# Altium footprint library HDR_fszhang.PcbLib: 116 footprints (part 3 of 8)
Each footprint in its own frame and in the unit in brackets; x right, y up, seen from the top. Pads: shape width x height; smd on the part's side, far side on the other; paste and mask are expansions set on the pad; w line width, h text height; cw(c..) or ccw(c..) is an arc to the next point about the centre after c.
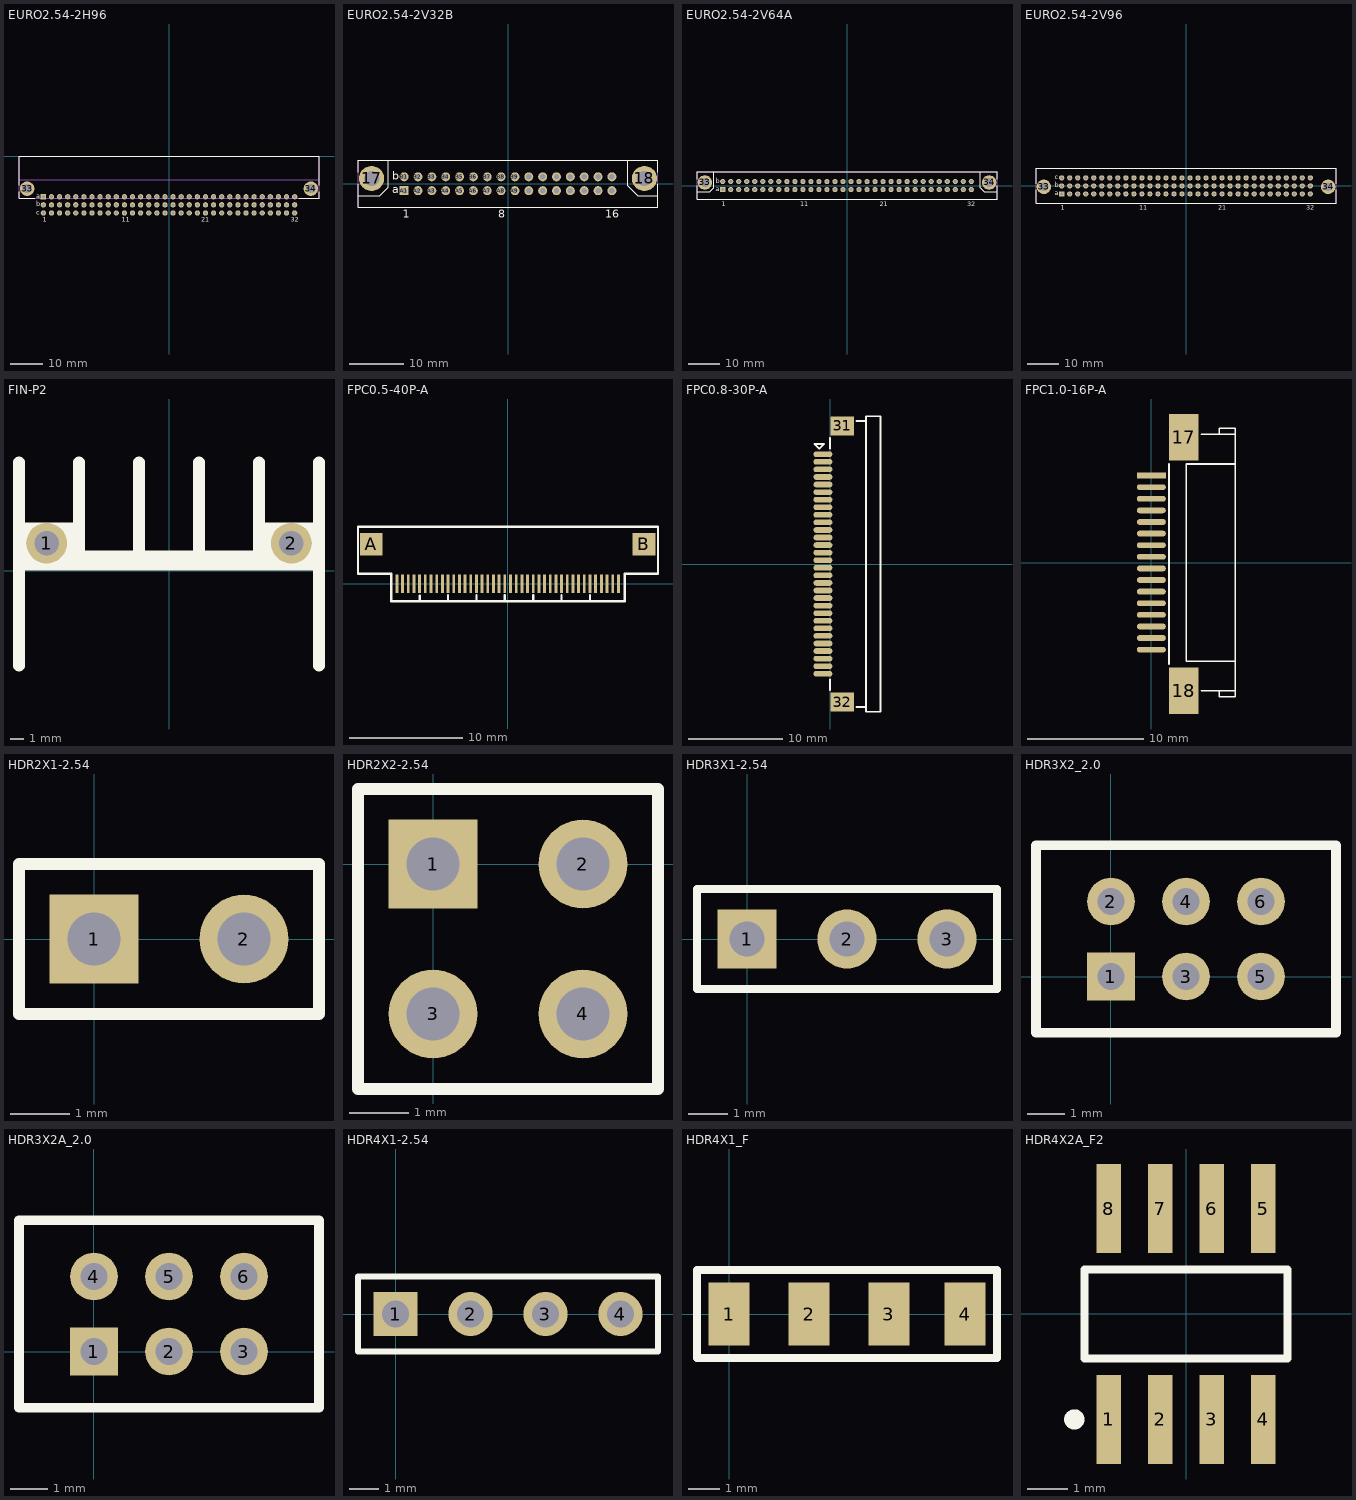
[diagram p2: the footprints below, top view; thin cyan lines are the x and y axes]

## EURO2.54-2H96 [mm] "Connector; DIN 41612, Type C, Thru-Hole; Rows a+b+c, 96 Position; Right Angle"
height 11.1
pads (98):
  round 4.6 hole 2.8: 33(-44.45,-10.1) 34(44.45,-10.1)
  rect 1.65x1.65 hole 1: A1(-39.37,-12.64)
  round 1.65 hole 1: A2(-36.83,-12.64) A3(-34.29,-12.64) A4(-31.75,-12.64) A5(-29.21,-12.64) A6(-26.67,-12.64) A7(-24.13,-12.64) A8(-21.59,-12.64) A9(-19.05,-12.64) A10(-16.51,-12.64) A11(-13.97,-12.64) A12(-11.43,-12.64) A13(-8.89,-12.64) A14(-6.35,-12.64) A15(-3.81,-12.64) A16(-1.27,-12.64) A17(1.27,-12.64) A18(3.81,-12.64) A19(6.35,-12.64) A20(8.89,-12.64) A21(11.43,-12.64) A22(13.97,-12.64) A23(16.51,-12.64) A24(19.05,-12.64) A25(21.59,-12.64) A26(24.13,-12.64) A27(26.67,-12.64) A28(29.21,-12.64) A29(31.75,-12.64) A30(34.29,-12.64) A31(36.83,-12.64) A32(39.37,-12.64) B1(-39.37,-15.18) B2(-36.83,-15.18) B3(-34.29,-15.18) B4(-31.75,-15.18) B5(-29.21,-15.18) B6(-26.67,-15.18) B7(-24.13,-15.18) B8(-21.59,-15.18) B9(-19.05,-15.18) B10(-16.51,-15.18) B11(-13.97,-15.18) B12(-11.43,-15.18) B13(-8.89,-15.18) B14(-6.35,-15.18) B15(-3.81,-15.18) B16(-1.27,-15.18) B17(1.27,-15.18) B18(3.81,-15.18) B19(6.35,-15.18) B20(8.89,-15.18) B21(11.43,-15.18) B22(13.97,-15.18) B23(16.51,-15.18) B24(19.05,-15.18) B25(21.59,-15.18) B26(24.13,-15.18) B27(26.67,-15.18) B28(29.21,-15.18) B29(31.75,-15.18) B30(34.29,-15.18) B31(36.83,-15.18) B32(39.37,-15.18) C1(-39.37,-17.72) C2(-36.83,-17.72) C3(-34.29,-17.72) C4(-31.75,-17.72) C5(-29.21,-17.72) C6(-26.67,-17.72) C7(-24.13,-17.72) C8(-21.59,-17.72) C9(-19.05,-17.72) C10(-16.51,-17.72) C11(-13.97,-17.72) C12(-11.43,-17.72) C13(-8.89,-17.72) C14(-6.35,-17.72) C15(-3.81,-17.72) C16(-1.27,-17.72) C17(1.27,-17.72) C18(3.81,-17.72) C19(6.35,-17.72) C20(8.89,-17.72) C21(11.43,-17.72) C22(13.97,-17.72) C23(16.51,-17.72) C24(19.05,-17.72) C25(21.59,-17.72) C26(24.13,-17.72) C27(26.67,-17.72) C28(29.21,-17.72) C29(31.75,-17.72) C30(34.29,-17.72) C31(36.83,-17.72) C32(39.37,-17.72)
Top Overlay:
  lines w0.2: -47,-11.1 -47,-13.14 -42.07,-13.14 ; -47,-9.1 -47,0 47,0 47,-9.1 ; 40.595,-13.14 47,-13.14 47,-11.1
  text "1" at -39.62,-20.42 h1.5
  text "a" at -41.58,-13.14 h1.5
  text "b" at -41.58,-15.68 h1.5
  text "c" at -41.58,-18.22 h1.5
  text "32" at 38.12,-20.42 h1.5
  text "11" at -14.845,-20.42 h1.5
  text "21" at 10.18,-20.42 h1.5
Mechanical 1:
  lines w0.1: -47,-7.34 47,-7.34
  text "PCB Edge" at -46.47,-6.84 h0.6
Mechanical 13:
  lines w0.1: -47,-13.14 47,-13.14 47,0 -47,0 -47,-13.14
3D body: height 11.1, standoff 0, extent -47,-13.14 47,0

## EURO2.54-2V32B [mm] "Connector; DIN 41612, Type 2B, Thru-Hole; Rows a+b, 32 Position; Vertical"
height 11.6
pads (34):
  round 4.6 hole 2.8: 17(-25,0.97) 18(25,0.97)
  rect 1.65x1.65 hole 1: A1(-19.05,-1.27)
  round 1.65 hole 1: A2(-16.51,-1.27) A3(-13.97,-1.27) A4(-11.43,-1.27) A5(-8.89,-1.27) A6(-6.35,-1.27) A7(-3.81,-1.27) A8(-1.27,-1.27) A9(1.27,-1.27) A10(3.81,-1.27) A11(6.35,-1.27) A12(8.89,-1.27) A13(11.43,-1.27) A14(13.97,-1.27) A15(16.51,-1.27) A16(19.05,-1.27) B1(-19.05,1.27) B2(-16.51,1.27) B3(-13.97,1.27) B4(-11.43,1.27) B5(-8.89,1.27) B6(-6.35,1.27) B7(-3.81,1.27) B8(-1.27,1.27) B9(1.27,1.27) B10(3.81,1.27) B11(6.35,1.27) B12(8.89,1.27) B13(11.43,1.27) B14(13.97,1.27) B15(16.51,1.27) B16(19.05,1.27)
Top Overlay:
  lines w0.2: -27.5,-2.159 -23.495,-2.159 -21.971,-0.635 -21.971,4.3 ; -27.5,-0.13 -27.5,-4.3 27.5,-4.3 27.5,-0.13 ; -27.5,2.07 -27.5,4.3 27.5,4.3 27.5,2.07 ; 21.971,4.3 21.971,-0.381 23.749,-2.159 27.5,-2.159
  text "1" at -19.3,-6.23 h1.5
  text "a" at -21.26,-1.77 h1.5
  text "b" at -21.26,0.77 h1.5
  text "8" at -1.77,-6.23 h1.5
  text "16" at 17.8,-6.23 h1.5
Mechanical 13:
  lines w0.1: -27.5,-4.3 27.5,-4.3 27.5,4.3 -27.5,4.3 -27.5,-4.3
3D body: height 11.6, standoff 0, extent -27.5,-4.3 27.5,4.3

## EURO2.54-2V64A [mm] "Connector; DIN 41612, Type B, Thru-Hole; Rows a+b, 64 Position; Vertical"
height 11.6
pads (66):
  round 4.6 hole 2.8: 33(-45,0.97) 34(45,0.97)
  rect 1.65x1.65 hole 1: A1(-39.37,-1.27)
  round 1.65 hole 1: A2(-36.83,-1.27) A3(-34.29,-1.27) A4(-31.75,-1.27) A5(-29.21,-1.27) A6(-26.67,-1.27) A7(-24.13,-1.27) A8(-21.59,-1.27) A9(-19.05,-1.27) A10(-16.51,-1.27) A11(-13.97,-1.27) A12(-11.43,-1.27) A13(-8.89,-1.27) A14(-6.35,-1.27) A15(-3.81,-1.27) A16(-1.27,-1.27) A17(1.27,-1.27) A18(3.81,-1.27) A19(6.35,-1.27) A20(8.89,-1.27) A21(11.43,-1.27) A22(13.97,-1.27) A23(16.51,-1.27) A24(19.05,-1.27) A25(21.59,-1.27) A26(24.13,-1.27) A27(26.67,-1.27) A28(29.21,-1.27) A29(31.75,-1.27) A30(34.29,-1.27) A31(36.83,-1.27) A32(39.37,-1.27) B1(-39.37,1.27) B2(-36.83,1.27) B3(-34.29,1.27) B4(-31.75,1.27) B5(-29.21,1.27) B6(-26.67,1.27) B7(-24.13,1.27) B8(-21.59,1.27) B9(-19.05,1.27) B10(-16.51,1.27) B11(-13.97,1.27) B12(-11.43,1.27) B13(-8.89,1.27) B14(-6.35,1.27) B15(-3.81,1.27) B16(-1.27,1.27) B17(1.27,1.27) B18(3.81,1.27) B19(6.35,1.27) B20(8.89,1.27) B21(11.43,1.27) B22(13.97,1.27) B23(16.51,1.27) B24(19.05,1.27) B25(21.59,1.27) B26(24.13,1.27) B27(26.67,1.27) B28(29.21,1.27) B29(31.75,1.27) B30(34.29,1.27) B31(36.83,1.27) B32(39.37,1.27)
Top Overlay:
  lines w0.2: -47.5,-0.13 -47.5,-4.3 47.5,-4.3 47.5,-0.13 ; -47.5,2.07 -47.5,4.3 47.5,4.3 47.5,2.07 ; -47.498,-2.032 -43.434,-2.032 -42.164,-0.762 -42.164,4.3 ; 42.164,4.3 42.164,-0.762 43.434,-2.032 47.498,-2.032
  text "21" at 10.43,-6.48 h1.5
  text "11" at -14.82,-6.48 h1.5
  text "32" at 38.12,-6.48 h1.5
  text "b" at -41.58,0.77 h1.5
  text "a" at -41.58,-1.77 h1.5
  text "1" at -39.62,-6.48 h1.5
Mechanical 13:
  lines w0.1: -47.5,-4.3 47.5,-4.3 47.5,4.3 -47.5,4.3 -47.5,-4.3
3D body: height 11.6, standoff 0, extent -47.5,-4.3 47.5,4.3

## EURO2.54-2V96 [mm] "Connector; DIN 41612, Type C, Thru-Hole; Rows a+b+c, 96 Position; Vertical"
height 11.6
pads (98):
  round 4.6 hole 2.8: 33(-45,-0.3) 34(45,-0.3)
  rect 1.65x1.65 hole 1: A1(-39.37,-2.54)
  round 1.65 hole 1: A2(-36.83,-2.54) A3(-34.29,-2.54) A4(-31.75,-2.54) A5(-29.21,-2.54) A6(-26.67,-2.54) A7(-24.13,-2.54) A8(-21.59,-2.54) A9(-19.05,-2.54) A10(-16.51,-2.54) A11(-13.97,-2.54) A12(-11.43,-2.54) A13(-8.89,-2.54) A14(-6.35,-2.54) A15(-3.81,-2.54) A16(-1.27,-2.54) A17(1.27,-2.54) A18(3.81,-2.54) A19(6.35,-2.54) A20(8.89,-2.54) A21(11.43,-2.54) A22(13.97,-2.54) A23(16.51,-2.54) A24(19.05,-2.54) A25(21.59,-2.54) A26(24.13,-2.54) A27(26.67,-2.54) A28(29.21,-2.54) A29(31.75,-2.54) A30(34.29,-2.54) A31(36.83,-2.54) A32(39.37,-2.54) B1(-39.37,0) B2(-36.83,0) B3(-34.29,0) B4(-31.75,0) B5(-29.21,0) B6(-26.67,0) B7(-24.13,0) B8(-21.59,0) B9(-19.05,0) B10(-16.51,0) B11(-13.97,0) B12(-11.43,0) B13(-8.89,0) B14(-6.35,0) B15(-3.81,0) B16(-1.27,0) B17(1.27,0) B18(3.81,0) B19(6.35,0) B20(8.89,0) B21(11.43,0) B22(13.97,0) B23(16.51,0) B24(19.05,0) B25(21.59,0) B26(24.13,0) B27(26.67,0) B28(29.21,0) B29(31.75,0) B30(34.29,0) B31(36.83,0) B32(39.37,0) C1(-39.37,2.54) C2(-36.83,2.54) C3(-34.29,2.54) C4(-31.75,2.54) C5(-29.21,2.54) C6(-26.67,2.54) C7(-24.13,2.54) C8(-21.59,2.54) C9(-19.05,2.54) C10(-16.51,2.54) C11(-13.97,2.54) C12(-11.43,2.54) C13(-8.89,2.54) C14(-6.35,2.54) C15(-3.81,2.54) C16(-1.27,2.54) C17(1.27,2.54) C18(3.81,2.54) C19(6.35,2.54) C20(8.89,2.54) C21(11.43,2.54) C22(13.97,2.54) C23(16.51,2.54) C24(19.05,2.54) C25(21.59,2.54) C26(24.13,2.54) C27(26.67,2.54) C28(29.21,2.54) C29(31.75,2.54) C30(34.29,2.54) C31(36.83,2.54) C32(39.37,2.54)
Top Overlay:
  lines w0.2: -47.5,-1.3 -47.5,-5.55 47.5,-5.55 47.5,-1.3 ; -47.5,0.7 -47.5,5.55 47.5,5.55 47.5,0.7
  text "1" at -39.62,-7.525 h1.5
  text "a" at -41.58,-3.04 h1.5
  text "b" at -41.58,-0.5 h1.5
  text "c" at -41.58,2.04 h1.5
  text "32" at 38.12,-7.525 h1.5
  text "11" at -14.82,-7.525 h1.5
  text "21" at 10.18,-7.525 h1.5
Mechanical 13:
  lines w0.1: -47.5,-5.55 -47.5,5.55 47.5,5.55 47.5,-5.55 -47.5,-5.55
3D body: height 11.6, standoff 0, extent -47.5,-5.55 47.5,5.55

## FIN-P2 [mm] "散热片"
height 1.9
pads (2):
  round 3 hole 1.8: 1(-9.017,2.032) 2(9.017,2.032)
Top Overlay:
  rectangle: 6.629,1.27 11.049,3.556
  rectangle: -11.049,0.889 -6.629,3.556
  lines w0.85: -11.049,-7 -11.049,8 ; -6.629,0.762 -6.629,8.001 ; -2.21,0.762 -2.21,8.001 ; 2.21,0.762 2.21,8.001 ; 6.629,0.762 6.629,8.001 ; 11.049,-7 11.049,8
  lines w1.5: -10.668,0.762 10.668,0.762

## FPC0.5-40P-A [mm] "FPC0.5mm接口"
height 1
pads (42):
  rect 0.25x1.6 smd: 1(-9.78,0.011) 2(-9.28,0.011) 3(-8.78,0.011) 4(-8.28,0.011) 5(-7.78,0.011) 6(-7.28,0.011) 7(-6.78,0.011) 8(-6.28,0.011) 9(-5.78,0.011) 10(-5.28,0.011) 11(-4.78,0.011) 12(-4.28,0.011) 13(-3.78,0.011) 14(-3.28,0.011) 15(-2.78,0.011) 16(-2.28,0.011) 17(-1.78,0.011) 18(-1.28,0.011) 19(-0.78,0.011) 20(-0.28,0.011) 21(0.22,0.011) 22(0.72,0.011) 23(1.22,0.011) 24(1.72,0.011) 25(2.22,0.011) 26(2.72,0.011) 27(3.22,0.011) 28(3.72,0.011) 29(4.22,0.011) 30(4.72,0.011) 31(5.22,0.011) 32(5.72,0.011) 33(6.22,0.011) 34(6.72,0.011) 35(7.22,0.011) 36(7.72,0.011) 37(8.22,0.011) 38(8.72,0.011) 39(9.22,0.011) 40(9.72,0.011)
  rect 2x2 smd: A(-12.029,3.5) B(11.971,3.5)
Top Overlay:
  lines w0.2: -10.287,-1.524 -10.287,0.889 -13.208,0.889 -13.208,5.036 13.208,5.036 13.208,1.27 13.208,0.889 10.287,0.889 10.287,-1.514 -10.287,-1.514 ; -7.78,-1.514 -7.78,-1.014 ; -5.28,-1.514 -5.28,-0.989 ; -2.78,-1.489 -2.78,-0.989 ; -0.28,-1.464 -0.28,-0.964 ; 2.22,-1.464 2.22,-0.964 ; 4.72,-1.464 4.72,-0.964 ; 7.22,-1.464 7.22,-0.964

## FPC0.8-30P-A [mm] "FPC0.8mm接口"
height 1.2
pads (32):
  oval 2x0.6 smd: 1(-0.762,11.6) 2(-0.762,10.8) 3(-0.762,10) 4(-0.762,9.2) 5(-0.762,8.4) 6(-0.762,7.6) 7(-0.762,6.8) 8(-0.762,6) 9(-0.762,5.2) 10(-0.762,4.4) 11(-0.762,3.6) 12(-0.762,2.8) 13(-0.762,2) 14(-0.762,1.2) 15(-0.762,0.4) 16(-0.762,-0.4) 17(-0.762,-1.2) 18(-0.762,-2) 19(-0.762,-2.8) 20(-0.762,-3.6) 21(-0.762,-4.4) 22(-0.762,-5.2) 23(-0.762,-6) 24(-0.762,-6.8) 25(-0.762,-7.6) 26(-0.762,-8.4) 27(-0.762,-9.2) 28(-0.762,-10) 29(-0.762,-10.8) 30(-0.762,-11.6)
  rect 2.5x2 smd: 31(1.27,14.605) 32(1.27,-14.605)
Top Overlay:
  lines w0.2: 0,-13.335 0,-12.192 ; 0,12.192 0,13.335 ; 2.794,-15.113 3.81,-15.113 ; 2.794,15.113 3.81,15.113 ; 3.81,-15.113 3.81,-15.621 5.334,-15.621 5.334,15.621 3.81,15.621 3.81,15.113 ; 3.81,-15.113 3.81,15.113 ; -1.651,12.7 -1.524,12.7 -0.635,12.7 -1.143,12.192 -1.651,12.7

## FPC1.0-16P-A [mm] "FPC1.0mm接口"
height 1.2
pads (18):
  rect 2.5x0.5 smd: 1(0,7.493)
  oval 2.5x0.5 smd: 2(0,6.493) 3(0,5.493) 4(0,4.493) 5(0,3.493) 6(0,2.493) 7(0,1.493) 8(0,0.493) 9(0,-0.507) 10(0,-1.507) 11(0,-2.507) 12(0,-3.507) 13(0,-4.507) 14(0,-5.507) 15(0,-6.507) 16(0,-7.507)
  rect 2.5x4 smd: 17(2.794,10.795) 18(2.794,-11.049)
Top Overlay:
  lines w0.15: 1.524,-8.763 1.524,8.509 ; 4.318,-11.049 7.224,-11.049 ; 4.318,11.049 7.224,11.049 ; 5.842,11.049 5.842,11.557 7.224,11.557 7.224,11.049 ; 6.096,-11.049 5.842,-11.049 5.842,-11.557 7.224,-11.557 7.224,-11.049 ; 7.224,-8.507 3,-8.507 3,8.493 7.224,8.493 ; 7.224,-11.049 7.224,11.049

## HDR2X1-2.54 [mm] "2.54单排针排座"
height 7.01
pads (2):
  rect 1.5x1.5 hole 0.9: 1(0,0)
  round 1.5 hole 0.9: 2(2.54,0)
Top Overlay:
  lines w0.2: -1.27,-1.27 -1.27,1.27 3.81,1.27 3.81,-1.27 -1.27,-1.27
3D body: height 8.54, standoff -3, extent -1.27,-1.27 3.81,1.27

## HDR2X2-2.54 [mm] "2.54双排针排座"
height 7.01
pads (4):
  rect 1.5x1.5 hole 0.9: 1(0,0)
  round 1.5 hole 0.9: 2(2.54,0) 3(0,-2.54) 4(2.54,-2.54)
Top Overlay:
  lines w0.2: -1.27,-3.81 -1.27,1.27 3.81,1.27 3.81,-3.81 -1.27,-3.81

## HDR3X1-2.54 [mm] "2.54单排针排座"
height 1.5
pads (3):
  rect 1.5x1.5 hole 0.9: 1(0,0)
  round 1.5 hole 0.9: 2(2.54,0) 3(5.08,0)
Top Overlay:
  lines w0.2: -1.27,-1.27 6.35,-1.27 6.35,1.27 -1.27,1.27 -1.27,-1.27
3D body: height 8.54, standoff -3, extent -1.27,-1.27 6.35,1.27

## HDR3X2_2.0 [mm] "2.0mm双排针排座"
height 8
pads (6):
  rect 1.27x1.27 hole 0.711: 1(0,0)
  round 1.27 hole 0.711: 2(0,2) 3(2,0) 4(2,2) 5(4,0) 6(4,2)
Top Overlay:
  lines w0.254: -2,-1.5 -2,3.5 6,3.5 6,-1.5 -2,-1.5

## HDR3X2A_2.0 [mm] "2.0mm双排针排座"
height 8
pads (6):
  rect 1.27x1.27 hole 0.711: 1(0,0)
  round 1.27 hole 0.711: 2(2,0) 3(4,0) 4(0,2) 5(2,2) 6(4,2)
Top Overlay:
  lines w0.254: -2,-1.5 -2,3.5 6,3.5 6,-1.5 -2,-1.5

## HDR4X1-2.54 [mm] "2.54单排针排座"
height 1.6
pads (4):
  rect 1.5x1.5 hole 0.9: 1(0,0)
  round 1.5 hole 0.9: 2(2.54,0) 3(5.08,0) 4(7.62,0)
Top Overlay:
  lines w0.2: -1.27,-1.27 -1.27,1.27 8.89,1.27 8.89,-1.27 -1.27,-1.27

## HDR4X1_F [mm]
pads (4):
  rect 1.3x2 smd: 1(0,0) 2(2.54,0) 3(5.08,0) 4(7.493,0)
Top Overlay:
  lines w0.254: -1.016,-1.397 8.509,-1.397 8.509,1.397 -1.016,1.397 -1.016,-1.397

## HDR4X2A_F2 [mm]
height 1.75
pads (8):
  rect 0.6x2.2 smd: 1(-1.905,-2.6) 2(-0.635,-2.6) 3(0.635,-2.6) 4(1.905,-2.6) 5(1.905,2.6) 6(0.635,2.6) 7(-0.635,2.6) 8(-1.905,2.6)
Top Overlay:
  circle w0.25: c-2.755,-2.6 r0.125
  lines w0.2: -2.5,-1.1 -2.5,-0.367 -2.5,1.1 2.5,1.1 2.5,-1.1 -2.5,-1.1